# EAGLE library part DB9 (library digital-toy)
DB9 Connector Standard DB9 (D-Sub 9) serial connector. Can be used for CAN bus as well as RS485 and RS232. Footprint production proven. Spark Fun Electronics SKU : PRT-00429 NOTE: DB9 female by hyl,2011.2.5
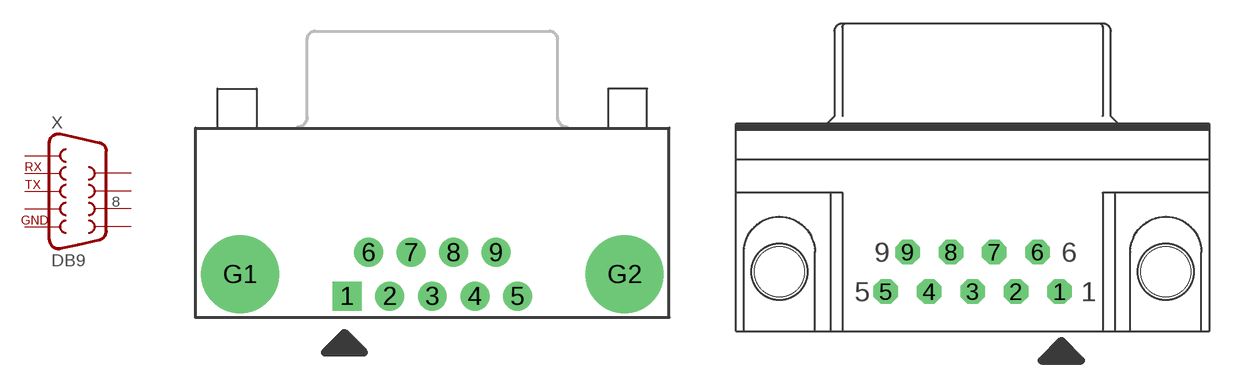
[diagram p20: symbol with the pads of DB9-FEMALE/90; footprints DB9-FEMALE/90, DB9-MALE/90]

Designator prefix X

## DB9-FEMALE/90  [DB9-FEMALE/90]
1  DCD  pas
2  RXD  pas
3  TXD  pas
4  DTR  pas
5  SGND  pas
6  DSR  pas
7  RTS  pas
8  CTS  pas
9  RI  pas

## DB9-MALE/90  [DB9-MALE/90]
Pads as for DB9-FEMALE/90

## Footprint DB9-FEMALE/90 (pad centres in mm)
SUB-D
drill 1.016 pad 1.88 square: 1 -5.54,-1.42
drill 1.016 pad 1.88 round: 2 -2.77,-1.42; 3 0,-1.42; 4 2.77,-1.42; 5 5.54,-1.42; 6 -4.15,1.42; 7 -1.38,1.42; 8 1.38,1.42; 9 4.15,1.42
drill 3.302 pad 5.08 round: G1 -12.5,0; G2 12.5,0

## Footprint DB9-MALE/90 (pad centres in mm)
drill 1.016 pad 1.575 octagon: 1 5.588,-1.27; 2 2.794,-1.27; 3 0,-1.27; 4 -2.794,-1.27; 5 -5.588,-1.27; 6 4.191,1.27; 7 1.397,1.27; 8 -1.397,1.27; 9 -4.191,1.27
hole 3.2 at 12.446,0
hole 3.2 at -12.446,0